# Altium footprint library TourniquetPCB.PcbLib: 29 footprints (part 2 of 2)
Each footprint in its own frame and in the unit in brackets; x right, y up, seen from the top. Pads: shape width x height; smd on the part's side, far side on the other; paste and mask are expansions set on the pad; w line width, h text height; cw(c..) or ccw(c..) is an arc to the next point about the centre after c.
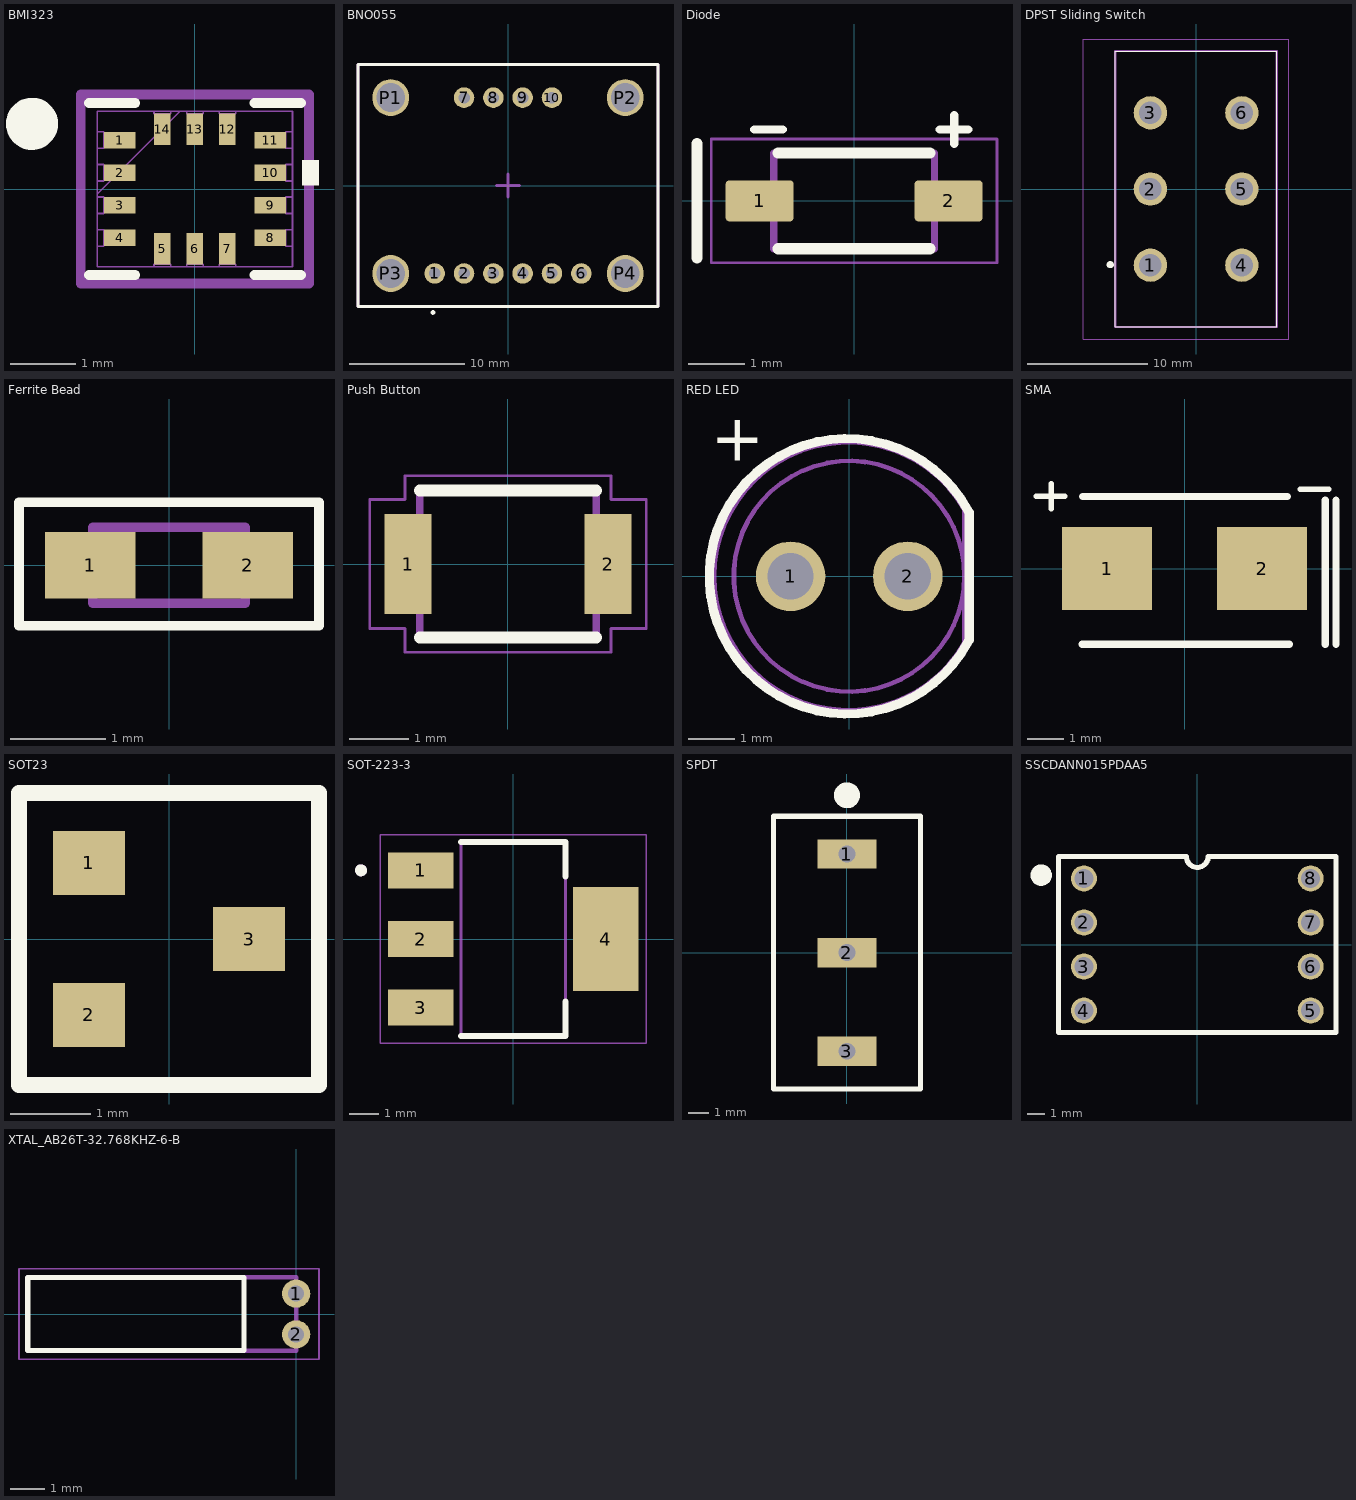
[diagram p1: the footprints below, top view; thin cyan lines are the x and y axes]

## BMI323 [mil]
pads (14):
  rect 19x10 smd paste+0 mask+0: 1(-45.5,29.53) 2(-45.5,9.84) 3(-45.5,-9.84) 4(-45.5,-29.53) 8(45.5,-29.53) 9(45.5,-9.84) 10(45.5,9.84) 11(45.5,29.53)
  rect 10x19 smd paste+0 mask+0: 5(-19.68,-36) 6(0,-36) 7(19.68,-36) 12(19.68,36) 13(0,36) 14(-19.68,36)
Top Overlay:
  circle w15.75: c-98.43,39.37 r7.87
  region: 65,17.34 75,17.34 75,2.34 65,2.34
  lines w6: -64,-52 -36.06,-52 ; -64,52 -36.06,52 ; 36.06,-52 64,-52 ; 36.06,52 64,52
Mechanical 13:
  lines w1: -59,-3 -9,47 ; -59,-47 59,-47 59,47 -59,47 -59,-47 ; -59,-34.53 -59,-24.53 -55,-24.53 -55,-34.53 -59,-34.53 ; -59,-14.84 -59,-4.84 -55,-4.84 -55,-14.84 -59,-14.84 ; -59,4.84 -59,14.84 -55,14.84 -55,4.84 -59,4.84 ; -59,24.53 -59,34.53 -55,34.53 -55,24.53 -59,24.53 ; -24.68,-47 -14.69,-47 -14.69,-45.5 -24.68,-45.5 -24.68,-47 ; -24.68,45.5 -14.69,45.5 -14.69,47 -24.68,47 -24.68,45.5 ; -5,-47 5,-47 5,-45.5 -5,-45.5 -5,-47 ; -5,45.5 5,45.5 5,47 -5,47 -5,45.5 ; 14.69,-47 24.68,-47 24.68,-45.5 14.69,-45.5 14.69,-47 ; 14.69,45.5 24.68,45.5 24.68,47 14.69,47 14.69,45.5 ; 55,-34.53 59,-34.53 59,-24.53 55,-24.53 55,-34.53 ; 55,-14.84 59,-14.84 59,-4.84 55,-4.84 55,-14.84 ; 55,4.84 59,4.84 59,14.84 55,14.84 55,4.84 ; 55,24.53 59,24.53 59,34.53 55,34.53 55,24.53
Mechanical 15:
  lines w6: -69,-57 -69,-44.53 -69,44.53 -69,57 -34.69,57 34.69,57 69,57 69,44.53 69,-44.53 69,-57 34.69,-57 -34.69,-57 -69,-57
3D body "BMI323_BOS.step": height 34.09, standoff 0, extent -59.02,-47.01 59.02,47.01

## BNO055 [mm]
pads (14):
  round 1.778 hole 1: 1(-6.35,-7.62) 2(-3.81,-7.62) 3(-1.27,-7.62) 4(1.27,-7.62) 5(3.81,-7.62) 6(6.35,-7.62) 7(-3.81,7.62) 8(-1.27,7.62) 9(1.27,7.62) 10(3.81,7.62)
  round 3.2 hole 2.5: P1(-10.16,7.62) P2(10.16,7.62) P3(-10.16,-7.62) P4(10.16,-7.62)
Top Overlay:
  circle w0.2: c-6.5,-11 r0.1
  lines w0.25: -13,-10.5 -13,10.5 13,10.5 13,-10.5 -13,-10.5
Mechanical 13:
  lines w0.25: -13,-10.5 13,-10.5 13,10.5 -13,10.5 -13,-10.5
Mechanical 15:
  lines w0.25: -1,0 0,0 ; 0,0 0,-1 0,0 ; 0,0 1,0 0,0 ; 0,0 0,1 0,0
3D body "Adafruit BNO055 STEMMA QT.step": height 4.6, standoff 0, extent -12.7,-10.16 12.7,10.16

## Diode [mm]
pads (2):
  rrect18% 1.21x0.73 smd paste+0 mask+0.102: 1(-1.68,0) 2(1.68,0)
Top Overlay:
  lines w0.15: -1.778,1.27 -1.27,1.27 ; 1.778,1.524 1.778,1.016 1.778,1.27 ; 2.032,1.27 1.778,1.27 ; 1.778,1.27 1.524,1.27 1.778,1.27
  lines w0.2: -2.794,-1.016 -2.794,1.016 ; -1.35,-0.85 1.35,-0.85 ; -1.35,0.85 1.35,0.85
Mechanical 13:
  lines w0.127: -1.43,-0.85 -1.43,0.85 1.43,0.85 1.43,-0.85 -1.43,-0.85
Mechanical 15:
  lines w0.05: -2.54,-1.1 -2.54,1.1 2.54,1.1 2.54,-1.1 -2.54,-1.1
3D body "step_temp.STEP": height 1.01, standoff 0.01, extent -1.9,-0.8 1.9,0.8

## DPST Sliding Switch [mm] "S201031MS02Q"
pads (6):
  round 2.775 hole 1.85: 1(-3.81,-6.35) 2(-3.81,0) 3(-3.81,6.35) 4(3.81,-6.35) 5(3.81,0) 6(3.81,6.35)
Top Overlay:
  circle w0.5: c-7.15,-6.3 r0.05
  lines w0.1: -6.73,-11.495 6.73,-11.495 6.73,11.495 -6.73,11.495 -6.73,-11.495
Mechanical 15:
  lines w0.2: -6.73,-11.495 6.73,-11.495 6.73,11.495 -6.73,11.495 -6.73,-11.495
Mechanical 20:
  lines w0.1: -9.41,-12.495 7.73,-12.495 7.73,12.495 -9.41,12.495 -9.41,-12.495
3D body "S201031MS02Q.stp": height 18.06, standoff -3.68, extent -6.731,-11.493 6.731,11.493

## Ferrite Bead [mm]
pads (2):
  rect 0.95x0.7 smd paste+0 mask+0.051: 1(-0.825,0) 2(0.825,0)
Top Overlay:
  lines w0.1: -1.575,-0.635 1.575,-0.635 1.575,0.66 -1.575,0.66 -1.575,-0.635
Mechanical 13:
  lines w0.1: -0.8,-0.4 0.8,-0.4 0.8,0.4 -0.8,0.4 -0.8,-0.4
3D body "step_temp.STEP": height 0.81, standoff 0.01, extent -0.8,-0.4 0.8,0.4

## Push Button [mm]
pads (2):
  rect 0.8x1.7 smd paste+0 mask+0.102: 1(-1.7,0) 2(1.7,0)
Top Overlay:
  lines w0.2: -1.5,-1.25 1.5,-1.25 ; -1.5,1.25 1.5,1.25
Mechanical 13:
  lines w0.127: -1.5,-1.25 1.5,-1.25 1.5,1.25 -1.5,1.25 -1.5,-1.25
Mechanical 15:
  lines w0.05: -2.35,-1.1 -2.35,1.1 -1.75,1.1 -1.75,1.5 1.75,1.5 1.75,1.1 2.35,1.1 2.35,-1.1 1.75,-1.1 1.75,-1.5 -1.75,-1.5 -1.75,-1.1 -2.35,-1.1
3D body "step_temp.STEP": height 1.75, standoff 0, extent -2,-1.25 2,1.25

## RED LED [mm]
pads (2):
  round 1.508 hole 1: 1(-1.27,0) 2(1.27,0)
Top Overlay:
  lines w0.2: 2.589,-1.401 cw(c-0.047,0) 2.589,1.401 ; 2.6,-1.38 2.6,1.38
  text "+" at -3,2.5 h1.02
Mechanical 13:
  circle w0.1: c0,0 r2.5
  lines w0.1: 2.493,-1.452 cw(c-0.021,0) 2.493,1.452 ; 2.5,-1.44 2.5,1.44
3D body "Download_STP_WL-TMRC-5mm+%28rev1%29.stp": height 8.7, standoff -26.4, extent -2.95,-2.94 2.45,2.94

## SMA [mm]
pads (2):
  rect 2.5x2.3 smd: 1(-2.15,0) 2(2.15,0)
Top Overlay:
  lines w0.15: -4.125,2 -3.325,2 ; -3.7,1.65 -3.7,2.35 ; 3.2,2.2 4,2.2
  lines w0.2: -2.85,-2.1 2.9,-2.1 ; -2.825,2 2.85,2 ; 3.9,-2.1 3.9,1.9 ; 4.2,-2.1 4.2,1.9
3D body "SMB_DIO.step": height 2.45, standoff 0, extent -2.795,-1.97 2.795,1.97

## SOT23 [mm]
pads (3):
  rect 0.9x0.8 smd: 1(-1,0.95) 2(-1,-0.95) 3(1,0)
Top Overlay:
  lines w0.2: -1.875,-1.825 -1.875,1.825 1.875,1.825 1.875,-1.825 -1.875,-1.825
3D body "SOT-23_MCC.step": height 1.22, standoff 0, extent -1.321,-1.524 1.321,1.524

## SOT-223-3 [mm]
pads (4):
  rect 2.2x1.2 smd: 1(-3.1,2.3) 2(-3.1,0) 3(-3.1,-2.3)
  rect 2.2x3.5 smd: 4(3.1,0)
Top Overlay:
  circle w0.2: c-5.1,2.3 r0.1
  lines w0.2: -1.75,-3.25 1.75,-3.25 1.75,-2.1 ; -1.75,3.25 1.75,3.25 1.75,2.1
Mechanical 13:
  circle w0.2: c-5.1,2.3 r0.1
  lines w0.1: -1.75,-3.25 1.75,-3.25 1.75,3.25 -1.75,3.25 -1.75,-3.25
Mechanical 15:
  lines w0.05: -4.45,-3.5 -4.45,3.5 4.45,3.5 4.45,-3.5 -4.45,-3.5
3D body "step_temp.STEP": height 1.65, standoff 0, extent -3.5,-3.25 3.5,3.25

## SPDT [mm]
pads (3):
  rect 2.8x1.4 hole 0.8 square: 1(0,4.7) 2(0,0) 3(0,-4.7)
Top Overlay:
  circle w0.635: c0,7.5 r0.3
  lines w0.25: -3.5,-6.5 -3.5,6.5 3.5,6.5 3.5,-6.5 -3.5,-6.5
3D body "141_500SSPxS1M2xEA.stp": height 12.43, standoff -5.6, extent -3.3,-6.35 3.3,6.35

## SSCDANN015PDAA5 [mm]
pads (8):
  round 1.5 hole 1.1: 1(-6.54,3.81) 2(-6.54,1.27) 3(-6.54,-1.27) 4(-6.54,-3.81) 5(6.54,-3.81) 6(6.54,-1.27) 7(6.54,1.27) 8(6.54,3.81)
Top Overlay:
  circle w0.635: c-9,4 r0.3
  lines w0.3: -8,-5.08 -8,5.08 -0.635,5.08 ccw(c0,5.08) 0.635,5.08 8,5.08 8,-5.08 -8,-5.08
3D body "Honeywell SSCDANN015PDAA5.STEP": height 13.76, standoff -5.4, extent -6.65,-5 6.65,5

## XTAL_AB26T-32.768KHZ-6-B [mm]
pads (2):
  round 0.81 hole 0.46: 1(0,0.585) 2(0,-0.585)
Top Overlay:
  lines w0.15: -7.7,-1.05 -1.5,-1.05 -1.5,1.05 -7.7,1.05 -7.7,-1.05
Mechanical 13:
  lines w0.127: -7.7,-1.05 0,-1.05 0,1.05 -7.7,1.05 -7.7,-1.05
Mechanical 15:
  lines w0.05: -7.95,-1.3 0.655,-1.3 0.655,1.3 -7.95,1.3 -7.95,-1.3
3D body "AB26T-32.768KHZ-6-B.step": height 2.09, standoff -3.78, extent -7.8,-1 0.03,1.1